# Altium footprint library OSI_542.PcbLib: 8 footprints
Each footprint in its own frame and in the unit in brackets; x right, y up, seen from the top. Pads: shape width x height; smd on the part's side, far side on the other; paste and mask are expansions set on the pad; w line width, h text height; cw(c..) or ccw(c..) is an arc to the next point about the centre after c.
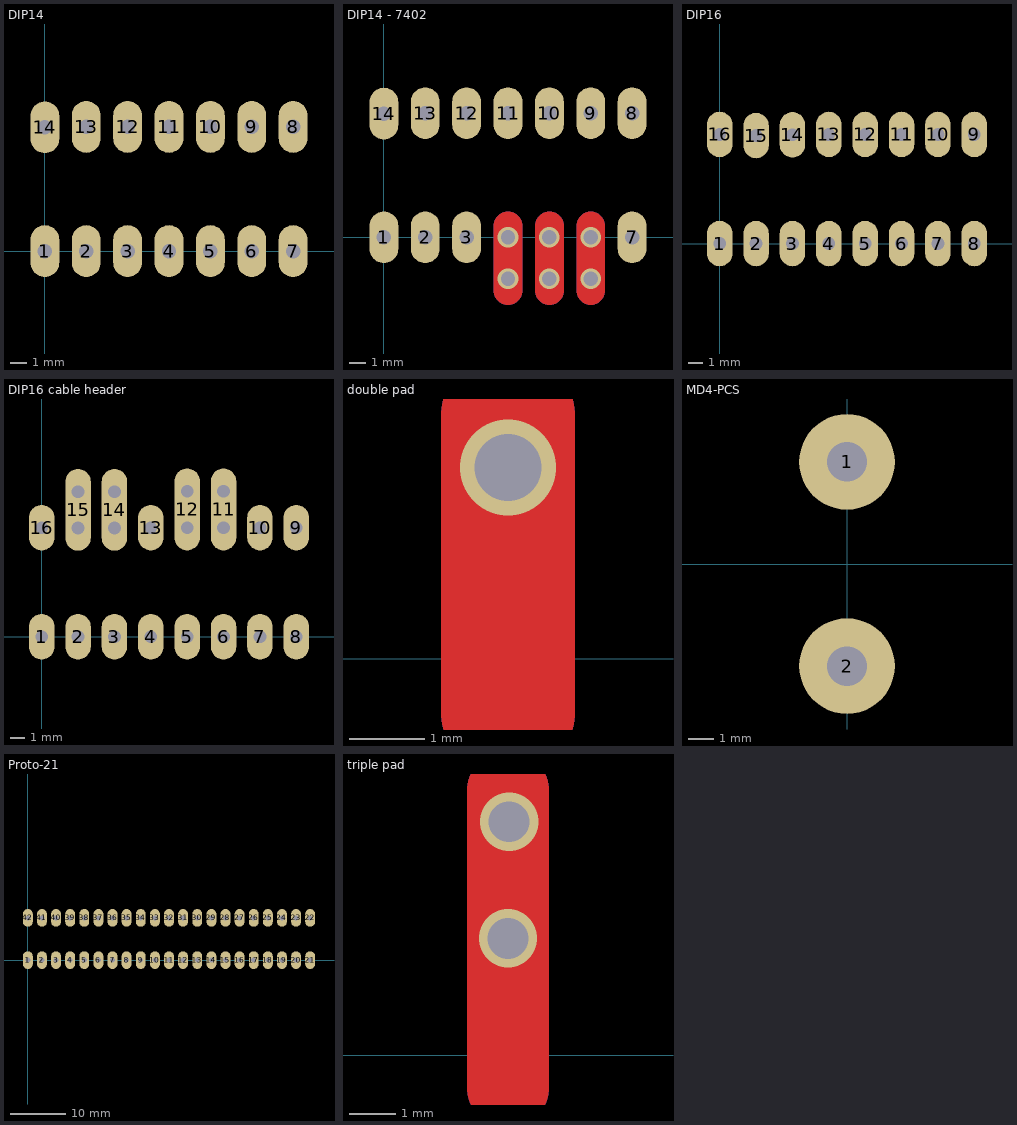
[diagram p0: the footprints below, top view; thin cyan lines are the x and y axes]

## DIP14 [mil] "Standard DIP 16"
pads (14):
  oval 70x125 hole 35: 1(0,0) 2(100,0) 3(200,0) 4(300,0) 5(400,0) 6(500,0) 7(600,0) 8(600,300) 9(500,300) 10(400,300) 11(300,300) 12(200,300) 13(100,300) 14(0,299)

## DIP14 - 7402 [mil] "Standard DIP 16"
pads (11):
  oval 70x125 hole 35: 1(0,0) 2(100,0) 3(200,0) 7(600,0) 8(600,300) 9(500,300) 10(400,300) 11(300,300) 12(200,300) 13(100,300) 14(0,299)
via 500,0 diameter 50 hole 35
via 400,0 diameter 50 hole 35
via 400,0 diameter 50 hole 35
via 300,0 diameter 50 hole 35
via 500,0 diameter 50 hole 35
via 300,-100 diameter 50 hole 35
via 400,-100 diameter 50 hole 35
via 500,-100 diameter 50 hole 35
Top Layer:
  lines w70: 300,-128 300,27 ; 400,-128 400,27 ; 500,-128 500,27
Bottom Layer:
  lines w70: 300,-128 300,27 ; 400,-128 400,27 ; 500,-128 500,27
Top Solder:
  lines w78: 300,-129 300,28 ; 400,-129 400,28 ; 500,-129 500,28
Bottom Solder:
  lines w78: 300,-129 300,28 ; 400,-129 400,28 ; 500,-129 500,28

## DIP16 [mil] "Standard DIP 16"
pads (16):
  oval 70x125 hole 35: 1(0,0) 2(100,0) 3(200,0) 4(300,0) 5(400,0) 6(500,0) 7(600,0) 8(700,0) 9(700,300) 10(600,300) 11(500,300) 12(400,300) 13(300,300) 14(200,299) 15(100,297) 16(0,300)

## DIP16 cable header [mil] "Standard DIP 16"
pads (16):
  oval 70x125 hole 35: 1(0,0) 2(100,0) 3(200,0) 4(300,0) 5(400,0) 6(500,0) 7(600,0) 8(700,0) 9(700,300) 10(600,300) 13(300,300) 16(0,300)
  oval 70x225 all layers, no hole: 11(500,350) 12(400,350) 14(200,349) 15(100,349)
via 400,300 diameter 50 hole 35
via 400,400 diameter 50 hole 35
via 500,400 diameter 50 hole 35
via 500,300 diameter 50 hole 35
via 200,299 diameter 50 hole 35
via 200,399 diameter 50 hole 35
via 100,399 diameter 50 hole 35
via 100,299 diameter 50 hole 35

## double pad [mil]
via 0,100 diameter 50 hole 35
Top Layer:
  lines w70: 0,-28 0,127
Bottom Layer:
  lines w70: 0,-28 0,127
Top Solder:
  lines w78: 0,-29 0,128
Bottom Solder:
  lines w78: 0,-29 0,128

## MD4-PCS [mil] "Futaba MD4-PCS key"
pads (2):
  round 150 hole 62: 1(0,160) 2(0,-160)

## Proto-21 [mil]
pads (42):
  oval 70x125 hole 35: 1(0,0) 2(100,0) 3(200,0) 4(300,0) 5(400,0) 6(500,0) 7(600,0) 8(700,0) 9(800,0) 10(900,0) 11(1000,0) 12(1100,0) 13(1200,0) 14(1300,0) 15(1400,0) 16(1500,0) 17(1600,0) 18(1700,0) 19(1800,0) 20(1900,0) 21(2000,0) 22(2000,300) 23(1900,300) 24(1800,300) 25(1700,300) 26(1600,300) 27(1500,300) 28(1400,300) 29(1300,300) 30(1200,300) 31(1100,300) 32(1000,300) 33(900,300) 34(800,300) 35(700,300) 36(600,300) 37(500,300) 38(400,300) 39(300,300) 40(200,300) 41(100,300) 42(0,300)

## triple pad [mil]
via 1,200 diameter 50 hole 35
via 0,100 diameter 50 hole 35
Top Layer:
  lines w70: 0,-28 0,227
Bottom Layer:
  lines w70: 0,-28 0,227
Top Solder:
  lines w78: 0,-29 0,228
Bottom Solder:
  lines w78: 0,-29 0,228